# Altium schematic symbol library IS-IMX-5.SchLib: 1 symbol
Pins are listed as number, name and electrical type; pins without a type are passive.

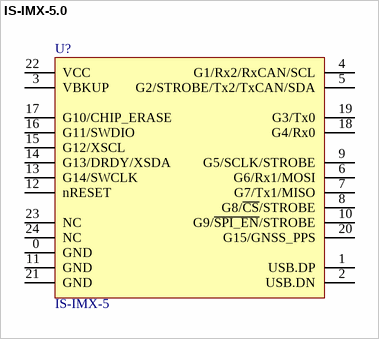
[diagram p0: symbol IS-IMX-5.0]

## IS-IMX-5.0
designator U?, comment Manufacturer Part Number: IS-IMX-5  (hidden comment: IMX)
Inertial Sense IMX; Manufacturer: Inertial Sense; Supplier 1: Inertial Sense; Supplier Part Number 1: IS-IMX-5
footprint IS-IMX-5.0 (Inerial Sense IMX r5.0, 22pins 1.27mm pitch)
pins: 0 GND (power), 1 USB.DP, 2 USB.DN, 3 VBKUP, 4 G1/Rx2/RxCAN/SCL, 5 G2/STROBE/Tx2/TxCAN/SDA, 6 G6/Rx1/MOSI, 7 G7/Tx1/MISO, 8 G8/~{CS}/STROBE, 9 G5/SCLK/STROBE, 10 G9/~{SPI_EN}/STROBE, 11 GND (power), 12 nRESET, 13 G14/SWCLK, 14 G13/DRDY/XSDA, 15 G12/XSCL, 16 G11/SWDIO, 17 G10/CHIP_ERASE, 18 G4/Rx0, 19 G3/Tx0, 20 G15/GNSS_PPS, 21 GND (power), 22 VCC (power), 23 NC (power), 24 NC (power)